# Altium schematic symbol library kmilo17pet-TI_BattMgmt.SchLib: 950 symbols (part 17 of 60)
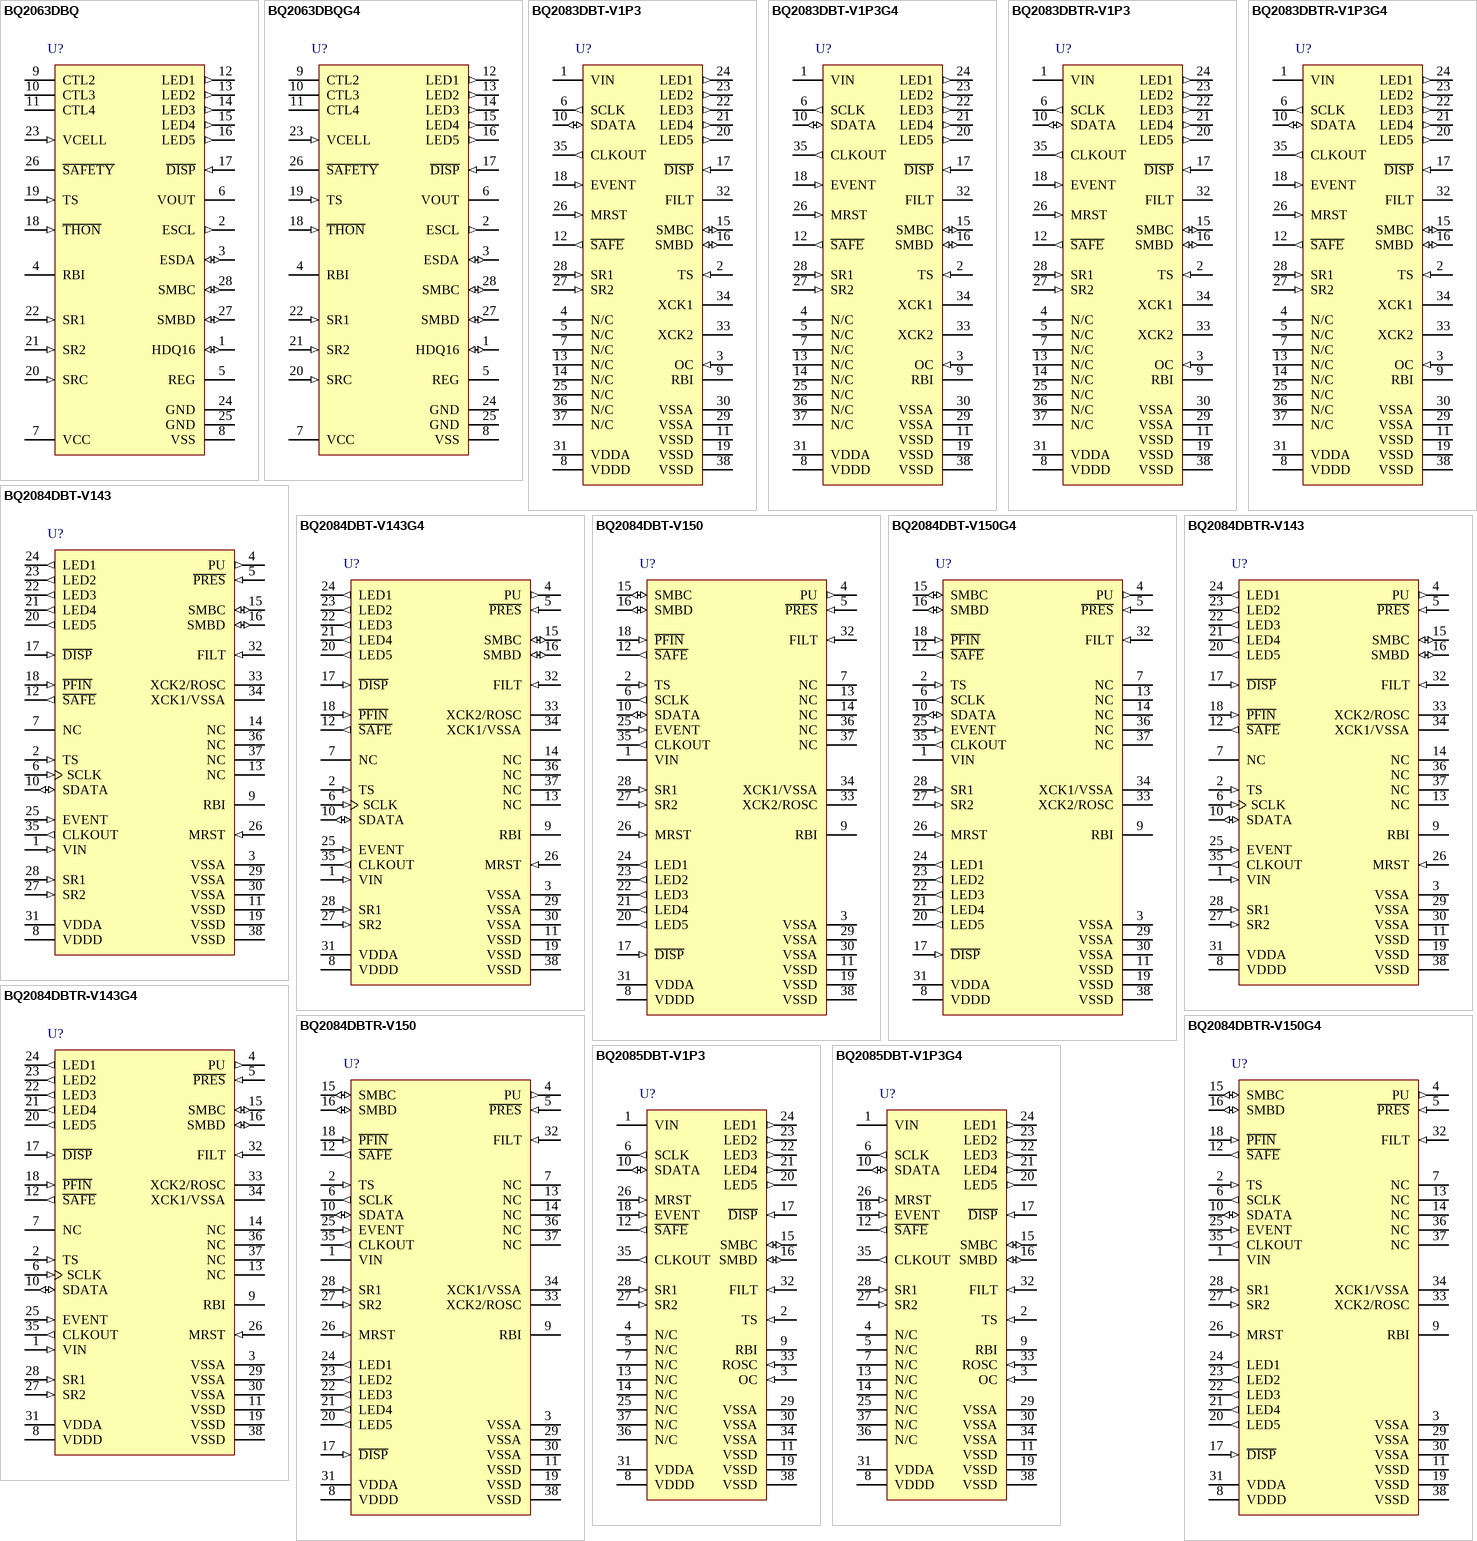
[diagram p50: symbols BQ2063DBQ to BQ2085DBT-V1P3G4]

## BQ2083DBT-V1P3
designator U?
SBS-Compliant Gas Gauge for Use with bq29311, -20 to 85 degC, 38-pin TSSOP (DBT), Green (RoHS & no Sb/Br); PartNumber: BQ2083DBT-V1P3; Manufacturer: Texas Instruments; Lead Acid: N; SubFamily: Battery Fuel Gauge; DatasheetVersion: SLVS508; PackageVersion: revI, Mar-2011; PackageReference: DBT38; PackageDescription: 38-Pin Plastic Small Outline 0.5 mm Pitch; Supplier 1: Digi-Key; Supplier Part Number 1: 296-17237-ND; Supplier Part Number 3: 595-BQ2083DBT-V1P3; Eco-Plan: Green (RoHS & no Sb/Br); Li-Ion: N; Li-Polymer: N; NiCd: N; NiMH: N; Over Voltage Protection: N; Mounting Technology: Surface Mount; Code_JEDEC: MO-153; ComponentLink1Description: Datasheet; ComponentLink1URL: http://www.ti.com/general/docs/lit/getliterature.tsp?genericPartNumber=BQ2083-V1P3&fileType=pdf
footprint DBT38_N (TSSOP, 38-Leads, Body 9.7x4.4mm, Pitch 0.5mm, IPC Medium Density)
footprint DBT38_L (TSSOP, 38-Leads, Body 9.7x4.4mm, Pitch 0.5mm, IPC High Density)
footprint DBT38_M (TSSOP, 38-Leads, Body 9.7x4.4mm, Pitch 0.5mm, IPC Low Density)
pins: 1 VIN (power) "Single cell voltage input from the bq29311", 2 TS (in) "Thermistor voltage input connection to monitor temperature", 3 OC (in) "Analog input for auto ADC offset compensation; should be connected to VSSA", 4 N/C "No connection", 5 N/C "No connection", 6 SCLK (out) "Communication clock to the bq29311", 7 N/C "No connection", 8 VDDD (power) "Positive supply for digital circuitry and I/O pins", 9 RBI (power) "Register backup that provides backup potential to the bq2083-V1P3 data registers during periods of low operating voltage. RBI accepts a storage capacitor or a battery input.", 10 SDATA (io) "Data transfer to and from bq29311", 11 VSSD (power) "Negative supply for digital circuitry", 12 ~{SAFE} (out) "Output for additional level of safety protection; e.g., fuse blow.", 13 N/C "No connection", 14 N/C "No connection", 15 SMBC (io) "SMBus clock open-drain bidirectional pin used to clock the data transfer to and from the bq2083-V1P3", 16 SMBD (io) "SMBus data open-drain bidirectional pin used to transfer address and data to and from the bq2083-V1P3", 17 ~{DISP} (in) "Display control for the LED drivers LED1 through LED5", 18 EVENT (in) "Input from bq29311 XALERT output", 19 VSSD (power) "Negative supply for digital circuitry", 20 LED5 (out) "LED display segments that each may drive an external LED", 21 LED4 (out) "LED display segments that each may drive an external LED", 22 LED3 (out) "LED display segments that each may drive an external LED", 23 LED2 (out) "LED display segments that each may drive an external LED", 24 LED1 (out) "LED display segments that each may drive an external LED", 25 N/C "No connection", 26 MRST (in) "Master reset input that forces the device into reset when held high", 27 SR2 (in) "Connections for a small-value sense resistor to monitor the battery charge- and discharge-current flow", 28 SR1 (in) "Connections for a small-value sense resistor to monitor the battery charge- and discharge-current flow", 29 VSSA (power) "Negative supply for analog circuitry", 30 VSSA (power) "Negative supply for analog circuitry", 31 VDDA (power) "Positive supply for analog circuitry", 32 FILT "Analog input connected to the external PLL filter", 33 XCK2 "32.768 kHz crystal oscillator output pin", 34 XCK1 "32.768 kHz crystal oscillator input pin", 35 CLKOUT (out) "32.768-kHz output to the bq29311", 36 N/C "No connection", 37 N/C "No connection", 38 VSSD (power) "Negative supply for digital circuitry"

## BQ2083DBT-V1P3G4
designator U?
SBS-Compliant Gas Gauge for Use with bq29311, -20 to 85 degC, 38-pin TSSOP (DBT), Green (RoHS & no Sb/Br); PartNumber: BQ2083DBT-V1P3G4; Manufacturer: Texas Instruments; Lead Acid: N; SubFamily: Battery Fuel Gauge; DatasheetVersion: SLVS508; PackageVersion: revI, Mar-2011; PackageReference: DBT38; PackageDescription: 38-Pin Plastic Small Outline 0.5 mm Pitch; Supplier 1: Digi-Key; Supplier Part Number 1: BQ2083DBT-V1P3G4-ND; Supplier Part Number 3: 595-BQ2083DBT-V1P3G4; Eco-Plan: Green (RoHS & no Sb/Br); Li-Ion: N; Li-Polymer: N; NiCd: N; NiMH: N; Over Voltage Protection: N; Mounting Technology: Surface Mount; Code_JEDEC: MO-153; ComponentLink1Description: Datasheet; ComponentLink1URL: http://www.ti.com/general/docs/lit/getliterature.tsp?genericPartNumber=BQ2083-V1P3&fileType=pdf
footprint DBT38_N (TSSOP, 38-Leads, Body 9.7x4.4mm, Pitch 0.5mm, IPC Medium Density)
footprint DBT38_L (TSSOP, 38-Leads, Body 9.7x4.4mm, Pitch 0.5mm, IPC High Density)
footprint DBT38_M (TSSOP, 38-Leads, Body 9.7x4.4mm, Pitch 0.5mm, IPC Low Density)
pins: 1 VIN (power) "Single cell voltage input from the bq29311", 2 TS (in) "Thermistor voltage input connection to monitor temperature", 3 OC (in) "Analog input for auto ADC offset compensation; should be connected to VSSA", 4 N/C "No connection", 5 N/C "No connection", 6 SCLK (out) "Communication clock to the bq29311", 7 N/C "No connection", 8 VDDD (power) "Positive supply for digital circuitry and I/O pins", 9 RBI (power) "Register backup that provides backup potential to the bq2083-V1P3 data registers during periods of low operating voltage. RBI accepts a storage capacitor or a battery input.", 10 SDATA (io) "Data transfer to and from bq29311", 11 VSSD (power) "Negative supply for digital circuitry", 12 ~{SAFE} (out) "Output for additional level of safety protection; e.g., fuse blow.", 13 N/C "No connection", 14 N/C "No connection", 15 SMBC (io) "SMBus clock open-drain bidirectional pin used to clock the data transfer to and from the bq2083-V1P3", 16 SMBD (io) "SMBus data open-drain bidirectional pin used to transfer address and data to and from the bq2083-V1P3", 17 ~{DISP} (in) "Display control for the LED drivers LED1 through LED5", 18 EVENT (in) "Input from bq29311 XALERT output", 19 VSSD (power) "Negative supply for digital circuitry", 20 LED5 (out) "LED display segments that each may drive an external LED", 21 LED4 (out) "LED display segments that each may drive an external LED", 22 LED3 (out) "LED display segments that each may drive an external LED", 23 LED2 (out) "LED display segments that each may drive an external LED", 24 LED1 (out) "LED display segments that each may drive an external LED", 25 N/C "No connection", 26 MRST (in) "Master reset input that forces the device into reset when held high", 27 SR2 (in) "Connections for a small-value sense resistor to monitor the battery charge- and discharge-current flow", 28 SR1 (in) "Connections for a small-value sense resistor to monitor the battery charge- and discharge-current flow", 29 VSSA (power) "Negative supply for analog circuitry", 30 VSSA (power) "Negative supply for analog circuitry", 31 VDDA (power) "Positive supply for analog circuitry", 32 FILT "Analog input connected to the external PLL filter", 33 XCK2 "32.768 kHz crystal oscillator output pin", 34 XCK1 "32.768 kHz crystal oscillator input pin", 35 CLKOUT (out) "32.768-kHz output to the bq29311", 36 N/C "No connection", 37 N/C "No connection", 38 VSSD (power) "Negative supply for digital circuitry"

## BQ2083DBTR-V1P3
designator U?
SBS-Compliant Gas Gauge for Use with bq29311, -20 to 85 degC, 38-pin TSSOP (DBT), Green (RoHS & no Sb/Br); PartNumber: BQ2083DBTR-V1P3; Manufacturer: Texas Instruments; Lead Acid: N; SubFamily: Battery Fuel Gauge; DatasheetVersion: SLVS508; PackageVersion: revI, Mar-2011; PackageReference: DBT38; PackageDescription: 38-Pin Plastic Small Outline 0.5 mm Pitch; Supplier 1: Digi-Key; Supplier Part Number 1: BQ2083DBTR-V1P3-ND; Supplier Part Number 3: 595-BQ2083DBTR-V1P3; Eco-Plan: Green (RoHS & no Sb/Br); Li-Ion: N; Li-Polymer: N; NiCd: N; NiMH: N; Over Voltage Protection: N; Mounting Technology: Surface Mount; Code_JEDEC: MO-153; ComponentLink1Description: Datasheet; ComponentLink1URL: http://www.ti.com/general/docs/lit/getliterature.tsp?genericPartNumber=BQ2083-V1P3&fileType=pdf
footprint DBT38_N (TSSOP, 38-Leads, Body 9.7x4.4mm, Pitch 0.5mm, IPC Medium Density)
footprint DBT38_L (TSSOP, 38-Leads, Body 9.7x4.4mm, Pitch 0.5mm, IPC High Density)
footprint DBT38_M (TSSOP, 38-Leads, Body 9.7x4.4mm, Pitch 0.5mm, IPC Low Density)
pins: 1 VIN (power) "Single cell voltage input from the bq29311", 2 TS (in) "Thermistor voltage input connection to monitor temperature", 3 OC (in) "Analog input for auto ADC offset compensation; should be connected to VSSA", 4 N/C "No connection", 5 N/C "No connection", 6 SCLK (out) "Communication clock to the bq29311", 7 N/C "No connection", 8 VDDD (power) "Positive supply for digital circuitry and I/O pins", 9 RBI (power) "Register backup that provides backup potential to the bq2083-V1P3 data registers during periods of low operating voltage. RBI accepts a storage capacitor or a battery input.", 10 SDATA (io) "Data transfer to and from bq29311", 11 VSSD (power) "Negative supply for digital circuitry", 12 ~{SAFE} (out) "Output for additional level of safety protection; e.g., fuse blow.", 13 N/C "No connection", 14 N/C "No connection", 15 SMBC (io) "SMBus clock open-drain bidirectional pin used to clock the data transfer to and from the bq2083-V1P3", 16 SMBD (io) "SMBus data open-drain bidirectional pin used to transfer address and data to and from the bq2083-V1P3", 17 ~{DISP} (in) "Display control for the LED drivers LED1 through LED5", 18 EVENT (in) "Input from bq29311 XALERT output", 19 VSSD (power) "Negative supply for digital circuitry", 20 LED5 (out) "LED display segments that each may drive an external LED", 21 LED4 (out) "LED display segments that each may drive an external LED", 22 LED3 (out) "LED display segments that each may drive an external LED", 23 LED2 (out) "LED display segments that each may drive an external LED", 24 LED1 (out) "LED display segments that each may drive an external LED", 25 N/C "No connection", 26 MRST (in) "Master reset input that forces the device into reset when held high", 27 SR2 (in) "Connections for a small-value sense resistor to monitor the battery charge- and discharge-current flow", 28 SR1 (in) "Connections for a small-value sense resistor to monitor the battery charge- and discharge-current flow", 29 VSSA (power) "Negative supply for analog circuitry", 30 VSSA (power) "Negative supply for analog circuitry", 31 VDDA (power) "Positive supply for analog circuitry", 32 FILT "Analog input connected to the external PLL filter", 33 XCK2 "32.768 kHz crystal oscillator output pin", 34 XCK1 "32.768 kHz crystal oscillator input pin", 35 CLKOUT (out) "32.768-kHz output to the bq29311", 36 N/C "No connection", 37 N/C "No connection", 38 VSSD (power) "Negative supply for digital circuitry"

## BQ2083DBTR-V1P3G4
designator U?
SBS-Compliant Gas Gauge for Use with bq29311, -20 to 85 degC, 38-pin TSSOP (DBT), Green (RoHS & no Sb/Br); PartNumber: BQ2083DBTR-V1P3G4; Manufacturer: Texas Instruments; Lead Acid: N; SubFamily: Battery Fuel Gauge; DatasheetVersion: SLVS508; PackageVersion: revI, Mar-2011; PackageReference: DBT38; PackageDescription: 38-Pin Plastic Small Outline 0.5 mm Pitch; Supplier 1: Digi-Key; Supplier Part Number 1: BQ2083DBTR-V1P3G4-ND; Supplier Part Number 3: 595-BQ2083DBTRV1P3G4; Eco-Plan: Green (RoHS & no Sb/Br); Li-Ion: N; Li-Polymer: N; NiCd: N; NiMH: N; Over Voltage Protection: N; Mounting Technology: Surface Mount; Code_JEDEC: MO-153; ComponentLink1Description: Datasheet; ComponentLink1URL: http://www.ti.com/general/docs/lit/getliterature.tsp?genericPartNumber=BQ2083-V1P3&fileType=pdf
footprint DBT38_N (TSSOP, 38-Leads, Body 9.7x4.4mm, Pitch 0.5mm, IPC Medium Density)
footprint DBT38_L (TSSOP, 38-Leads, Body 9.7x4.4mm, Pitch 0.5mm, IPC High Density)
footprint DBT38_M (TSSOP, 38-Leads, Body 9.7x4.4mm, Pitch 0.5mm, IPC Low Density)
pins: 1 VIN (power) "Single cell voltage input from the bq29311", 2 TS (in) "Thermistor voltage input connection to monitor temperature", 3 OC (in) "Analog input for auto ADC offset compensation; should be connected to VSSA", 4 N/C "No connection", 5 N/C "No connection", 6 SCLK (out) "Communication clock to the bq29311", 7 N/C "No connection", 8 VDDD (power) "Positive supply for digital circuitry and I/O pins", 9 RBI (power) "Register backup that provides backup potential to the bq2083-V1P3 data registers during periods of low operating voltage. RBI accepts a storage capacitor or a battery input.", 10 SDATA (io) "Data transfer to and from bq29311", 11 VSSD (power) "Negative supply for digital circuitry", 12 ~{SAFE} (out) "Output for additional level of safety protection; e.g., fuse blow.", 13 N/C "No connection", 14 N/C "No connection", 15 SMBC (io) "SMBus clock open-drain bidirectional pin used to clock the data transfer to and from the bq2083-V1P3", 16 SMBD (io) "SMBus data open-drain bidirectional pin used to transfer address and data to and from the bq2083-V1P3", 17 ~{DISP} (in) "Display control for the LED drivers LED1 through LED5", 18 EVENT (in) "Input from bq29311 XALERT output", 19 VSSD (power) "Negative supply for digital circuitry", 20 LED5 (out) "LED display segments that each may drive an external LED", 21 LED4 (out) "LED display segments that each may drive an external LED", 22 LED3 (out) "LED display segments that each may drive an external LED", 23 LED2 (out) "LED display segments that each may drive an external LED", 24 LED1 (out) "LED display segments that each may drive an external LED", 25 N/C "No connection", 26 MRST (in) "Master reset input that forces the device into reset when held high", 27 SR2 (in) "Connections for a small-value sense resistor to monitor the battery charge- and discharge-current flow", 28 SR1 (in) "Connections for a small-value sense resistor to monitor the battery charge- and discharge-current flow", 29 VSSA (power) "Negative supply for analog circuitry", 30 VSSA (power) "Negative supply for analog circuitry", 31 VDDA (power) "Positive supply for analog circuitry", 32 FILT "Analog input connected to the external PLL filter", 33 XCK2 "32.768 kHz crystal oscillator output pin", 34 XCK1 "32.768 kHz crystal oscillator input pin", 35 CLKOUT (out) "32.768-kHz output to the bq29311", 36 N/C "No connection", 37 N/C "No connection", 38 VSSD (power) "Negative supply for digital circuitry"

## BQ2084DBT-V143
designator U?
SBS v1.1 Compliant Gas Gauge for use with the BQ29312A, 38-pin TSSOP (DBT), Green (RoHS & no Sb/Br); PartNumber: BQ2084DBT-V143; Manufacturer: Texas Instruments; Lead Acid: N; Li-Ion: Y; SubFamily: Battery Fuel Gauge; DatasheetVersion: SLUS732; PackageVersion: revI, Mar-2011; PackageReference: DBT38; PackageDescription: 38-Pin Plastic Small Outline 0.5 mm Pitch; Supplier 1: Digi-Key; Supplier Part Number 1: 296-32833-5-ND; Supplier Part Number 3: 21M9446; Eco-Plan: Green (RoHS & no Sb/Br); Li-Polymer: N; NiCd: N; NiMH: N; Over Voltage Protection: N; Mounting Technology: Surface Mount; Code_JEDEC: MO-153; ComponentLink1Description: Datasheet; ComponentLink1URL: http://www.ti.com/general/docs/lit/getliterature.tsp?genericPartNumber=BQ2084-V143&fileType=pdf
footprint DBT38_N (TSSOP, 38-Leads, Body 9.7x4.4mm, Pitch 0.5mm, IPC Medium Density)
footprint DBT38_L (TSSOP, 38-Leads, Body 9.7x4.4mm, Pitch 0.5mm, IPC High Density)
footprint DBT38_M (TSSOP, 38-Leads, Body 9.7x4.4mm, Pitch 0.5mm, IPC Low Density)
pins: 1 VIN (in) "Single-cell voltage input from the bq29312.", 2 TS (in) "Thermistor voltage input connection to monitor temperature.", 3 VSSA (power) "Negative supply for analog circuitry.", 4 PU (out) "Output to pull up the P\R\E\S\ pin for detection.", 5 ~{PRES} (in) "Active low input to sense system insertion.", 6 SCLK (in) "Communication clock to the bq29312.", 7 NC "No connection.", 8 VDDD (power) "Positive supply for digital circuitry and I/O pins.", 9 RBI (power) "Register backup that provides backup potential to the bq2084-V143 data registers during periods of low operating voltage. RBI accepts a storage capacitor or a battery input.", 10 SDATA (io) "Data transfer to and from bq29312.", 11 VSSD (power) "Negative supply for digital circuitry.", 12 ~{SAFE} (out) "Active low output for additional level of safety protection; e.g., fuse blow.", 13 NC "No connection.", 14 NC "No connection.", 15 SMBC (io) "SMBus clock open-drain bidirectional pin used to clock the data transfer to and from the bq2084-V143.", 16 SMBD (io) "SMBus data open-drain bidirectional pin used to transfer address and data to and from the bq2084-V143.", 17 ~{DISP} (in) "Display control for the LED drivers LED1 through LED5.", 18 ~{PFIN} (in) "Active low input to detect secondary protector output status.", 19 VSSD (power) "Negative supply for digital circuitry.", 20 LED5 (out) "LED display segments that each may drive an external LED.", 21 LED4 (out) "LED display segments that each may drive an external LED.", 22 LED3 (out) "LED display segments that each may drive an external LED.", 23 LED2 (out) "LED display segments that each may drive an external LED.", 24 LED1 (out) "LED display segments that each may drive an external LED.", 25 EVENT (in) "Input from bq29312 XALERT output.", 26 MRST (in) "Master reset input that forces the device into reset when held high.", 27 SR2 (in) "Connections for a small-value sense resistor to monitor the battery charge- and discharge-current flow.", 28 SR1 (in) "Connections for a small-value sense resistor to monitor the battery charge- and discharge-current flow.", 29 VSSA (power) "Negative supply for analog circuitry.", 30 VSSA (power) "Negative supply for analog circuitry.", 31 VDDA (power) "Positive supply for analog circuitry.", 32 FILT (in) "Analog input connected to the external PLL filter.", 33 XCK2/ROSC "32.768-kHz crystal oscillator output pin or connected to a 100-k ohm, 50 ppm or better resistor if the internal oscillator is used.", 34 XCK1/VSSA "32.768-kHz crystal oscillator input pin or connected to VSSA if the internal oscillator is used.", 35 CLKOUT (out) "32.768-kHz output to the bq29312.", 36 NC "No connection.", 37 NC "No connection.", 38 VSSD (power) "Negative supply for digital circuitry."

## BQ2084DBT-V143G4
designator U?
SBS v1.1 Compliant Gas Gauge for use with the BQ29312A, 38-pin TSSOP (DBT), Green (RoHS & no Sb/Br); PartNumber: BQ2084DBT-V143G4; Manufacturer: Texas Instruments; Lead Acid: N; Li-Ion: Y; SubFamily: Battery Fuel Gauge; DatasheetVersion: SLUS732; PackageVersion: revI, Mar-2011; PackageReference: DBT38; PackageDescription: 38-Pin Plastic Small Outline 0.5 mm Pitch; Supplier 1: Digi-Key; Supplier Part Number 1: BQ2084DBT-V143G4-ND; Supplier Part Number 3: 595-BQ2084DBT-V143G4; Eco-Plan: Green (RoHS & no Sb/Br); Li-Polymer: N; NiCd: N; NiMH: N; Over Voltage Protection: N; Mounting Technology: Surface Mount; Code_JEDEC: MO-153; ComponentLink1Description: Datasheet; ComponentLink1URL: http://www.ti.com/general/docs/lit/getliterature.tsp?genericPartNumber=BQ2084-V143&fileType=pdf
footprint DBT38_N (TSSOP, 38-Leads, Body 9.7x4.4mm, Pitch 0.5mm, IPC Medium Density)
footprint DBT38_L (TSSOP, 38-Leads, Body 9.7x4.4mm, Pitch 0.5mm, IPC High Density)
footprint DBT38_M (TSSOP, 38-Leads, Body 9.7x4.4mm, Pitch 0.5mm, IPC Low Density)
pins: 1 VIN (in) "Single-cell voltage input from the bq29312.", 2 TS (in) "Thermistor voltage input connection to monitor temperature.", 3 VSSA (power) "Negative supply for analog circuitry.", 4 PU (out) "Output to pull up the P\R\E\S\ pin for detection.", 5 ~{PRES} (in) "Active low input to sense system insertion.", 6 SCLK (in) "Communication clock to the bq29312.", 7 NC "No connection.", 8 VDDD (power) "Positive supply for digital circuitry and I/O pins.", 9 RBI (power) "Register backup that provides backup potential to the bq2084-V143 data registers during periods of low operating voltage. RBI accepts a storage capacitor or a battery input.", 10 SDATA (io) "Data transfer to and from bq29312.", 11 VSSD (power) "Negative supply for digital circuitry.", 12 ~{SAFE} (out) "Active low output for additional level of safety protection; e.g., fuse blow.", 13 NC "No connection.", 14 NC "No connection.", 15 SMBC (io) "SMBus clock open-drain bidirectional pin used to clock the data transfer to and from the bq2084-V143.", 16 SMBD (io) "SMBus data open-drain bidirectional pin used to transfer address and data to and from the bq2084-V143.", 17 ~{DISP} (in) "Display control for the LED drivers LED1 through LED5.", 18 ~{PFIN} (in) "Active low input to detect secondary protector output status.", 19 VSSD (power) "Negative supply for digital circuitry.", 20 LED5 (out) "LED display segments that each may drive an external LED.", 21 LED4 (out) "LED display segments that each may drive an external LED.", 22 LED3 (out) "LED display segments that each may drive an external LED.", 23 LED2 (out) "LED display segments that each may drive an external LED.", 24 LED1 (out) "LED display segments that each may drive an external LED.", 25 EVENT (in) "Input from bq29312 XALERT output.", 26 MRST (in) "Master reset input that forces the device into reset when held high.", 27 SR2 (in) "Connections for a small-value sense resistor to monitor the battery charge- and discharge-current flow.", 28 SR1 (in) "Connections for a small-value sense resistor to monitor the battery charge- and discharge-current flow.", 29 VSSA (power) "Negative supply for analog circuitry.", 30 VSSA (power) "Negative supply for analog circuitry.", 31 VDDA (power) "Positive supply for analog circuitry.", 32 FILT (in) "Analog input connected to the external PLL filter.", 33 XCK2/ROSC "32.768-kHz crystal oscillator output pin or connected to a 100-k ohm, 50 ppm or better resistor if the internal oscillator is used.", 34 XCK1/VSSA "32.768-kHz crystal oscillator input pin or connected to VSSA if the internal oscillator is used.", 35 CLKOUT (out) "32.768-kHz output to the bq29312.", 36 NC "No connection.", 37 NC "No connection.", 38 VSSD (power) "Negative supply for digital circuitry."

## BQ2084DBT-V150
designator U?
SBS v1.1 Compliant Gas Gauge with LED Delay, -20 to 85 degC, 38-pin TSSOP (DBT), Green (RoHS & no Sb/Br); PartNumber: BQ2084DBT-V150; Manufacturer: Texas Instruments; Lead Acid: N; Li-Ion: Y; SubFamily: Battery Fuel Gauge; DatasheetVersion: SLUS758; PackageVersion: revI, Mar-2011; PackageReference: DBT38; PackageDescription: 38-Pin Plastic Small Outline 0.5 mm Pitch; Supplier 1: Digi-Key; Supplier Part Number 1: 296-22085-5-ND; Supplier Part Number 3: 50M8820; Eco-Plan: Green (RoHS & no Sb/Br); Li-Polymer: Y; NiCd: N; NiMH: N; Over Voltage Protection: N; Mounting Technology: Surface Mount; Code_JEDEC: MO-153; ComponentLink1Description: Datasheet; ComponentLink1URL: http://www.ti.com/general/docs/lit/getliterature.tsp?genericPartNumber=BQ2084-V150&fileType=pdf
footprint DBT38_N (TSSOP, 38-Leads, Body 9.7x4.4mm, Pitch 0.5mm, IPC Medium Density)
footprint DBT38_L (TSSOP, 38-Leads, Body 9.7x4.4mm, Pitch 0.5mm, IPC High Density)
footprint DBT38_M (TSSOP, 38-Leads, Body 9.7x4.4mm, Pitch 0.5mm, IPC Low Density)
pins: 1 VIN (power) "Single-cell voltage input from the bq29312A", 2 TS (in) "Thermistor voltage input connection to monitor temperature", 3 VSSA (power) "Negative supply for analog circuitry", 4 PU (out) "Output to pull up the PRES pin for detection", 5 ~{PRES} (in) "Active low input to sense system insertion", 6 SCLK (out) "Communication clock to the bq29312A", 7 NC "No connection", 8 VDDD (power) "Positive supply for digital circuitry and I/O pins", 9 RBI (power) "Register backup that provides backup potential to the bq2084-V150 data registers during periods of low operating voltage. RBI accepts a storage capacitor or a battery input.", 10 SDATA (io) "Data transfer to and from bq29312A", 11 VSSD (power) "Negative supply for digital circuitry", 12 ~{SAFE} (out) "Active low output for additional level of safety protection; e.g., fuse blow.", 13 NC "No connection", 14 NC "No connection", 15 SMBC (io) "SMBus clock open-drain bidirectional pin used to clock the data transfer to and from the bq2084-V150", 16 SMBD (io) "SMBus clock open-drain bidirectional pin used to transfer address and data to and from the bq2084-V150", 17 ~{DISP} (in) "Display control for the LED drivers LED1 through LED5", 18 ~{PFIN} (in) "Active low input to detect secondary protector output status", 19 VSSD (power) "Negative supply for digital circuitry", 20 LED5 (out) "LED display segments that each may drive an external LED", 21 LED4 (out) "LED display segments that each may drive an external LED", 22 LED3 (out) "LED display segments that each may drive an external LED", 23 LED2 (out) "LED display segments that each may drive an external LED", 24 LED1 (out) "LED display segments that each may drive an external LED", 25 EVENT (in) "Input from bq29312A XALERT output", 26 MRST (in) "Master reset input that forces the device into reset when held high", 27 SR2 (in) "Connections for a small-value sense resistor to monitor the battery charge- and discharge-current flow", 28 SR1 (in) "Connections for a small-value sense resistor to monitor the battery charge- and discharge-current flow", 29 VSSA (power) "Negative supply for analog circuitry", 30 VSSA (power) "Negative supply for analog circuitry", 31 VDDA (power) "Positive supply for analog circuitry", 32 FILT (in) "Analog input connected to the external PLL filter", 33 XCK2/ROSC "32.768-kHz crystal oscillator input pin or connected to a 100-kohm, 50 ppm or better resistor if the internal oscillator is used", 34 XCK1/VSSA "32.768-kHz crystal oscillator input pin or connected to VSSA if the internal oscillator is used", 35 CLKOUT (out) "32.768-kHz output to the bq29312A", 36 NC "No connection", 37 NC "No connection", 38 VSSD (power) "Negative supply for digital circuitry"

## BQ2084DBT-V150G4
designator U?
SBS v1.1 Compliant Gas Gauge with LED Delay, -20 to 85 degC, 38-pin TSSOP (DBT), Green (RoHS & no Sb/Br); PartNumber: BQ2084DBT-V150G4; Manufacturer: Texas Instruments; Lead Acid: N; Li-Ion: Y; SubFamily: Battery Fuel Gauge; DatasheetVersion: SLUS758; PackageVersion: revI, Mar-2011; PackageReference: DBT38; PackageDescription: 38-Pin Plastic Small Outline 0.5 mm Pitch; Supplier 1: Digi-Key; Supplier Part Number 1: BQ2084DBT-V150G4-ND; Supplier Part Number 3: 595-BQ2084DBT-V150G4; Eco-Plan: Green (RoHS & no Sb/Br); Li-Polymer: Y; NiCd: N; NiMH: N; Over Voltage Protection: N; Mounting Technology: Surface Mount; Code_JEDEC: MO-153; ComponentLink1Description: Datasheet; ComponentLink1URL: http://www.ti.com/general/docs/lit/getliterature.tsp?genericPartNumber=BQ2084-V150&fileType=pdf
footprint DBT38_N (TSSOP, 38-Leads, Body 9.7x4.4mm, Pitch 0.5mm, IPC Medium Density)
footprint DBT38_L (TSSOP, 38-Leads, Body 9.7x4.4mm, Pitch 0.5mm, IPC High Density)
footprint DBT38_M (TSSOP, 38-Leads, Body 9.7x4.4mm, Pitch 0.5mm, IPC Low Density)
pins: 1 VIN (power) "Single-cell voltage input from the bq29312A", 2 TS (in) "Thermistor voltage input connection to monitor temperature", 3 VSSA (power) "Negative supply for analog circuitry", 4 PU (out) "Output to pull up the PRES pin for detection", 5 ~{PRES} (in) "Active low input to sense system insertion", 6 SCLK (out) "Communication clock to the bq29312A", 7 NC "No connection", 8 VDDD (power) "Positive supply for digital circuitry and I/O pins", 9 RBI (power) "Register backup that provides backup potential to the bq2084-V150 data registers during periods of low operating voltage. RBI accepts a storage capacitor or a battery input.", 10 SDATA (io) "Data transfer to and from bq29312A", 11 VSSD (power) "Negative supply for digital circuitry", 12 ~{SAFE} (out) "Active low output for additional level of safety protection; e.g., fuse blow.", 13 NC "No connection", 14 NC "No connection", 15 SMBC (io) "SMBus clock open-drain bidirectional pin used to clock the data transfer to and from the bq2084-V150", 16 SMBD (io) "SMBus clock open-drain bidirectional pin used to transfer address and data to and from the bq2084-V150", 17 ~{DISP} (in) "Display control for the LED drivers LED1 through LED5", 18 ~{PFIN} (in) "Active low input to detect secondary protector output status", 19 VSSD (power) "Negative supply for digital circuitry", 20 LED5 (out) "LED display segments that each may drive an external LED", 21 LED4 (out) "LED display segments that each may drive an external LED", 22 LED3 (out) "LED display segments that each may drive an external LED", 23 LED2 (out) "LED display segments that each may drive an external LED", 24 LED1 (out) "LED display segments that each may drive an external LED", 25 EVENT (in) "Input from bq29312A XALERT output", 26 MRST (in) "Master reset input that forces the device into reset when held high", 27 SR2 (in) "Connections for a small-value sense resistor to monitor the battery charge- and discharge-current flow", 28 SR1 (in) "Connections for a small-value sense resistor to monitor the battery charge- and discharge-current flow", 29 VSSA (power) "Negative supply for analog circuitry", 30 VSSA (power) "Negative supply for analog circuitry", 31 VDDA (power) "Positive supply for analog circuitry", 32 FILT (in) "Analog input connected to the external PLL filter", 33 XCK2/ROSC "32.768-kHz crystal oscillator input pin or connected to a 100-kohm, 50 ppm or better resistor if the internal oscillator is used", 34 XCK1/VSSA "32.768-kHz crystal oscillator input pin or connected to VSSA if the internal oscillator is used", 35 CLKOUT (out) "32.768-kHz output to the bq29312A", 36 NC "No connection", 37 NC "No connection", 38 VSSD (power) "Negative supply for digital circuitry"

## BQ2084DBTR-V143
designator U?
SBS v1.1 Compliant Gas Gauge for use with the BQ29312A, 38-pin TSSOP (DBT), Green (RoHS & no Sb/Br); PartNumber: BQ2084DBTR-V143; Manufacturer: Texas Instruments; Lead Acid: N; Li-Ion: Y; SubFamily: Battery Fuel Gauge; DatasheetVersion: SLUS732; PackageVersion: revI, Mar-2011; PackageReference: DBT38; PackageDescription: 38-Pin Plastic Small Outline 0.5 mm Pitch; Supplier 1: Digi-Key; Supplier Part Number 1: 296-21297-2-ND; Supplier Part Number 3: 296-21297-6-ND; Eco-Plan: Green (RoHS & no Sb/Br); Li-Polymer: N; NiCd: N; NiMH: N; Over Voltage Protection: N; Mounting Technology: Surface Mount; Code_JEDEC: MO-153; ComponentLink1Description: Datasheet; ComponentLink1URL: http://www.ti.com/general/docs/lit/getliterature.tsp?genericPartNumber=BQ2084-V143&fileType=pdf
footprint DBT38_N (TSSOP, 38-Leads, Body 9.7x4.4mm, Pitch 0.5mm, IPC Medium Density)
footprint DBT38_L (TSSOP, 38-Leads, Body 9.7x4.4mm, Pitch 0.5mm, IPC High Density)
footprint DBT38_M (TSSOP, 38-Leads, Body 9.7x4.4mm, Pitch 0.5mm, IPC Low Density)
pins: 1 VIN (in) "Single-cell voltage input from the bq29312.", 2 TS (in) "Thermistor voltage input connection to monitor temperature.", 3 VSSA (power) "Negative supply for analog circuitry.", 4 PU (out) "Output to pull up the P\R\E\S\ pin for detection.", 5 ~{PRES} (in) "Active low input to sense system insertion.", 6 SCLK (in) "Communication clock to the bq29312.", 7 NC "No connection.", 8 VDDD (power) "Positive supply for digital circuitry and I/O pins.", 9 RBI (power) "Register backup that provides backup potential to the bq2084-V143 data registers during periods of low operating voltage. RBI accepts a storage capacitor or a battery input.", 10 SDATA (io) "Data transfer to and from bq29312.", 11 VSSD (power) "Negative supply for digital circuitry.", 12 ~{SAFE} (out) "Active low output for additional level of safety protection; e.g., fuse blow.", 13 NC "No connection.", 14 NC "No connection.", 15 SMBC (io) "SMBus clock open-drain bidirectional pin used to clock the data transfer to and from the bq2084-V143.", 16 SMBD (io) "SMBus data open-drain bidirectional pin used to transfer address and data to and from the bq2084-V143.", 17 ~{DISP} (in) "Display control for the LED drivers LED1 through LED5.", 18 ~{PFIN} (in) "Active low input to detect secondary protector output status.", 19 VSSD (power) "Negative supply for digital circuitry.", 20 LED5 (out) "LED display segments that each may drive an external LED.", 21 LED4 (out) "LED display segments that each may drive an external LED.", 22 LED3 (out) "LED display segments that each may drive an external LED.", 23 LED2 (out) "LED display segments that each may drive an external LED.", 24 LED1 (out) "LED display segments that each may drive an external LED.", 25 EVENT (in) "Input from bq29312 XALERT output.", 26 MRST (in) "Master reset input that forces the device into reset when held high.", 27 SR2 (in) "Connections for a small-value sense resistor to monitor the battery charge- and discharge-current flow.", 28 SR1 (in) "Connections for a small-value sense resistor to monitor the battery charge- and discharge-current flow.", 29 VSSA (power) "Negative supply for analog circuitry.", 30 VSSA (power) "Negative supply for analog circuitry.", 31 VDDA (power) "Positive supply for analog circuitry.", 32 FILT (in) "Analog input connected to the external PLL filter.", 33 XCK2/ROSC "32.768-kHz crystal oscillator output pin or connected to a 100-k ohm, 50 ppm or better resistor if the internal oscillator is used.", 34 XCK1/VSSA "32.768-kHz crystal oscillator input pin or connected to VSSA if the internal oscillator is used.", 35 CLKOUT (out) "32.768-kHz output to the bq29312.", 36 NC "No connection.", 37 NC "No connection.", 38 VSSD (power) "Negative supply for digital circuitry."

## BQ2084DBTR-V143G4
designator U?
SBS v1.1 Compliant Gas Gauge for use with the BQ29312A, 38-pin TSSOP (DBT), Green (RoHS & no Sb/Br); PartNumber: BQ2084DBTR-V143G4; Manufacturer: Texas Instruments; Lead Acid: N; Li-Ion: Y; SubFamily: Battery Fuel Gauge; DatasheetVersion: SLUS732; PackageVersion: revI, Mar-2011; PackageReference: DBT38; PackageDescription: 38-Pin Plastic Small Outline 0.5 mm Pitch; Supplier 1: Digi-Key; Supplier Part Number 1: BQ2084DBTR-V143G4-ND; Supplier Part Number 3: 595-BQ2084DBTRV143G4; Eco-Plan: Green (RoHS & no Sb/Br); Li-Polymer: N; NiCd: N; NiMH: N; Over Voltage Protection: N; Mounting Technology: Surface Mount; Code_JEDEC: MO-153; ComponentLink1Description: Datasheet; ComponentLink1URL: http://www.ti.com/general/docs/lit/getliterature.tsp?genericPartNumber=BQ2084-V143&fileType=pdf
footprint DBT38_N (TSSOP, 38-Leads, Body 9.7x4.4mm, Pitch 0.5mm, IPC Medium Density)
footprint DBT38_L (TSSOP, 38-Leads, Body 9.7x4.4mm, Pitch 0.5mm, IPC High Density)
footprint DBT38_M (TSSOP, 38-Leads, Body 9.7x4.4mm, Pitch 0.5mm, IPC Low Density)
pins: 1 VIN (in) "Single-cell voltage input from the bq29312.", 2 TS (in) "Thermistor voltage input connection to monitor temperature.", 3 VSSA (power) "Negative supply for analog circuitry.", 4 PU (out) "Output to pull up the P\R\E\S\ pin for detection.", 5 ~{PRES} (in) "Active low input to sense system insertion.", 6 SCLK (in) "Communication clock to the bq29312.", 7 NC "No connection.", 8 VDDD (power) "Positive supply for digital circuitry and I/O pins.", 9 RBI (power) "Register backup that provides backup potential to the bq2084-V143 data registers during periods of low operating voltage. RBI accepts a storage capacitor or a battery input.", 10 SDATA (io) "Data transfer to and from bq29312.", 11 VSSD (power) "Negative supply for digital circuitry.", 12 ~{SAFE} (out) "Active low output for additional level of safety protection; e.g., fuse blow.", 13 NC "No connection.", 14 NC "No connection.", 15 SMBC (io) "SMBus clock open-drain bidirectional pin used to clock the data transfer to and from the bq2084-V143.", 16 SMBD (io) "SMBus data open-drain bidirectional pin used to transfer address and data to and from the bq2084-V143.", 17 ~{DISP} (in) "Display control for the LED drivers LED1 through LED5.", 18 ~{PFIN} (in) "Active low input to detect secondary protector output status.", 19 VSSD (power) "Negative supply for digital circuitry.", 20 LED5 (out) "LED display segments that each may drive an external LED.", 21 LED4 (out) "LED display segments that each may drive an external LED.", 22 LED3 (out) "LED display segments that each may drive an external LED.", 23 LED2 (out) "LED display segments that each may drive an external LED.", 24 LED1 (out) "LED display segments that each may drive an external LED.", 25 EVENT (in) "Input from bq29312 XALERT output.", 26 MRST (in) "Master reset input that forces the device into reset when held high.", 27 SR2 (in) "Connections for a small-value sense resistor to monitor the battery charge- and discharge-current flow.", 28 SR1 (in) "Connections for a small-value sense resistor to monitor the battery charge- and discharge-current flow.", 29 VSSA (power) "Negative supply for analog circuitry.", 30 VSSA (power) "Negative supply for analog circuitry.", 31 VDDA (power) "Positive supply for analog circuitry.", 32 FILT (in) "Analog input connected to the external PLL filter.", 33 XCK2/ROSC "32.768-kHz crystal oscillator output pin or connected to a 100-k ohm, 50 ppm or better resistor if the internal oscillator is used.", 34 XCK1/VSSA "32.768-kHz crystal oscillator input pin or connected to VSSA if the internal oscillator is used.", 35 CLKOUT (out) "32.768-kHz output to the bq29312.", 36 NC "No connection.", 37 NC "No connection.", 38 VSSD (power) "Negative supply for digital circuitry."

## BQ2084DBTR-V150
designator U?
SBS v1.1 Compliant Gas Gauge with LED Delay, -20 to 85 degC, 38-pin TSSOP (DBT), Green (RoHS & no Sb/Br); PartNumber: BQ2084DBTR-V150; Manufacturer: Texas Instruments; Lead Acid: N; Li-Ion: Y; SubFamily: Battery Fuel Gauge; DatasheetVersion: SLUS758; PackageVersion: revI, Mar-2011; PackageReference: DBT38; PackageDescription: 38-Pin Plastic Small Outline 0.5 mm Pitch; Supplier 1: Digi-Key; Supplier Part Number 1: BQ2084DBTR-V150-ND; Supplier Part Number 3: 595-BQ2084DBTR-V150; Eco-Plan: Green (RoHS & no Sb/Br); Li-Polymer: Y; NiCd: N; NiMH: N; Over Voltage Protection: N; Mounting Technology: Surface Mount; Code_JEDEC: MO-153; ComponentLink1Description: Datasheet; ComponentLink1URL: http://www.ti.com/general/docs/lit/getliterature.tsp?genericPartNumber=BQ2084-V150&fileType=pdf
footprint DBT38_N (TSSOP, 38-Leads, Body 9.7x4.4mm, Pitch 0.5mm, IPC Medium Density)
footprint DBT38_L (TSSOP, 38-Leads, Body 9.7x4.4mm, Pitch 0.5mm, IPC High Density)
footprint DBT38_M (TSSOP, 38-Leads, Body 9.7x4.4mm, Pitch 0.5mm, IPC Low Density)
pins: 1 VIN (power) "Single-cell voltage input from the bq29312A", 2 TS (in) "Thermistor voltage input connection to monitor temperature", 3 VSSA (power) "Negative supply for analog circuitry", 4 PU (out) "Output to pull up the PRES pin for detection", 5 ~{PRES} (in) "Active low input to sense system insertion", 6 SCLK (out) "Communication clock to the bq29312A", 7 NC "No connection", 8 VDDD (power) "Positive supply for digital circuitry and I/O pins", 9 RBI (power) "Register backup that provides backup potential to the bq2084-V150 data registers during periods of low operating voltage. RBI accepts a storage capacitor or a battery input.", 10 SDATA (io) "Data transfer to and from bq29312A", 11 VSSD (power) "Negative supply for digital circuitry", 12 ~{SAFE} (out) "Active low output for additional level of safety protection; e.g., fuse blow.", 13 NC "No connection", 14 NC "No connection", 15 SMBC (io) "SMBus clock open-drain bidirectional pin used to clock the data transfer to and from the bq2084-V150", 16 SMBD (io) "SMBus clock open-drain bidirectional pin used to transfer address and data to and from the bq2084-V150", 17 ~{DISP} (in) "Display control for the LED drivers LED1 through LED5", 18 ~{PFIN} (in) "Active low input to detect secondary protector output status", 19 VSSD (power) "Negative supply for digital circuitry", 20 LED5 (out) "LED display segments that each may drive an external LED", 21 LED4 (out) "LED display segments that each may drive an external LED", 22 LED3 (out) "LED display segments that each may drive an external LED", 23 LED2 (out) "LED display segments that each may drive an external LED", 24 LED1 (out) "LED display segments that each may drive an external LED", 25 EVENT (in) "Input from bq29312A XALERT output", 26 MRST (in) "Master reset input that forces the device into reset when held high", 27 SR2 (in) "Connections for a small-value sense resistor to monitor the battery charge- and discharge-current flow", 28 SR1 (in) "Connections for a small-value sense resistor to monitor the battery charge- and discharge-current flow", 29 VSSA (power) "Negative supply for analog circuitry", 30 VSSA (power) "Negative supply for analog circuitry", 31 VDDA (power) "Positive supply for analog circuitry", 32 FILT (in) "Analog input connected to the external PLL filter", 33 XCK2/ROSC "32.768-kHz crystal oscillator input pin or connected to a 100-kohm, 50 ppm or better resistor if the internal oscillator is used", 34 XCK1/VSSA "32.768-kHz crystal oscillator input pin or connected to VSSA if the internal oscillator is used", 35 CLKOUT (out) "32.768-kHz output to the bq29312A", 36 NC "No connection", 37 NC "No connection", 38 VSSD (power) "Negative supply for digital circuitry"

## BQ2084DBTR-V150G4
designator U?
SBS v1.1 Compliant Gas Gauge with LED Delay, -20 to 85 degC, 38-pin TSSOP (DBT), Green (RoHS & no Sb/Br); PartNumber: BQ2084DBTR-V150G4; Manufacturer: Texas Instruments; Lead Acid: N; Li-Ion: Y; SubFamily: Battery Fuel Gauge; DatasheetVersion: SLUS758; PackageVersion: revI, Mar-2011; PackageReference: DBT38; PackageDescription: 38-Pin Plastic Small Outline 0.5 mm Pitch; Supplier 1: Digi-Key; Supplier Part Number 1: BQ2084DBTR-V150G4-ND; Supplier Part Number 3: 595-BQ2084DBTRV150G4; Eco-Plan: Green (RoHS & no Sb/Br); Li-Polymer: Y; NiCd: N; NiMH: N; Over Voltage Protection: N; Mounting Technology: Surface Mount; Code_JEDEC: MO-153; ComponentLink1Description: Datasheet; ComponentLink1URL: http://www.ti.com/general/docs/lit/getliterature.tsp?genericPartNumber=BQ2084-V150&fileType=pdf
footprint DBT38_N (TSSOP, 38-Leads, Body 9.7x4.4mm, Pitch 0.5mm, IPC Medium Density)
footprint DBT38_L (TSSOP, 38-Leads, Body 9.7x4.4mm, Pitch 0.5mm, IPC High Density)
footprint DBT38_M (TSSOP, 38-Leads, Body 9.7x4.4mm, Pitch 0.5mm, IPC Low Density)
pins: 1 VIN (power) "Single-cell voltage input from the bq29312A", 2 TS (in) "Thermistor voltage input connection to monitor temperature", 3 VSSA (power) "Negative supply for analog circuitry", 4 PU (out) "Output to pull up the PRES pin for detection", 5 ~{PRES} (in) "Active low input to sense system insertion", 6 SCLK (out) "Communication clock to the bq29312A", 7 NC "No connection", 8 VDDD (power) "Positive supply for digital circuitry and I/O pins", 9 RBI (power) "Register backup that provides backup potential to the bq2084-V150 data registers during periods of low operating voltage. RBI accepts a storage capacitor or a battery input.", 10 SDATA (io) "Data transfer to and from bq29312A", 11 VSSD (power) "Negative supply for digital circuitry", 12 ~{SAFE} (out) "Active low output for additional level of safety protection; e.g., fuse blow.", 13 NC "No connection", 14 NC "No connection", 15 SMBC (io) "SMBus clock open-drain bidirectional pin used to clock the data transfer to and from the bq2084-V150", 16 SMBD (io) "SMBus clock open-drain bidirectional pin used to transfer address and data to and from the bq2084-V150", 17 ~{DISP} (in) "Display control for the LED drivers LED1 through LED5", 18 ~{PFIN} (in) "Active low input to detect secondary protector output status", 19 VSSD (power) "Negative supply for digital circuitry", 20 LED5 (out) "LED display segments that each may drive an external LED", 21 LED4 (out) "LED display segments that each may drive an external LED", 22 LED3 (out) "LED display segments that each may drive an external LED", 23 LED2 (out) "LED display segments that each may drive an external LED", 24 LED1 (out) "LED display segments that each may drive an external LED", 25 EVENT (in) "Input from bq29312A XALERT output", 26 MRST (in) "Master reset input that forces the device into reset when held high", 27 SR2 (in) "Connections for a small-value sense resistor to monitor the battery charge- and discharge-current flow", 28 SR1 (in) "Connections for a small-value sense resistor to monitor the battery charge- and discharge-current flow", 29 VSSA (power) "Negative supply for analog circuitry", 30 VSSA (power) "Negative supply for analog circuitry", 31 VDDA (power) "Positive supply for analog circuitry", 32 FILT (in) "Analog input connected to the external PLL filter", 33 XCK2/ROSC "32.768-kHz crystal oscillator input pin or connected to a 100-kohm, 50 ppm or better resistor if the internal oscillator is used", 34 XCK1/VSSA "32.768-kHz crystal oscillator input pin or connected to VSSA if the internal oscillator is used", 35 CLKOUT (out) "32.768-kHz output to the bq29312A", 36 NC "No connection", 37 NC "No connection", 38 VSSD (power) "Negative supply for digital circuitry"

## BQ2085DBT-V1P3
designator U?
SBS-Compliant Gas Gauge IC for Use with the bq29311, -20 to 85 degC, 38-pin TSSOP (DBT), Green (RoHS & no Sb/Br); PartNumber: BQ2085DBT-V1P3; Manufacturer: Texas Instruments; Lead Acid: N; SubFamily: Battery Fuel Gauge; DatasheetVersion: SLUS598; PackageVersion: revI, Mar-2011; PackageReference: DBT38; PackageDescription: 38-Pin Plastic Small Outline 0.5 mm Pitch; Supplier 1: Digi-Key; Supplier Part Number 1: 296-17238-ND; Supplier Part Number 3: 595-BQ2085DBT-V1P3; Eco-Plan: Green (RoHS & no Sb/Br); Li-Ion: N; Li-Polymer: N; NiCd: N; NiMH: N; Over Voltage Protection: N; Mounting Technology: Surface Mount; Code_JEDEC: MO-153; ComponentLink1Description: Datasheet; ComponentLink1URL: http://www.ti.com/general/docs/lit/getliterature.tsp?genericPartNumber=BQ2085-V1P3&fileType=pdf
footprint DBT38_N (TSSOP, 38-Leads, Body 9.7x4.4mm, Pitch 0.5mm, IPC Medium Density)
footprint DBT38_L (TSSOP, 38-Leads, Body 9.7x4.4mm, Pitch 0.5mm, IPC High Density)
footprint DBT38_M (TSSOP, 38-Leads, Body 9.7x4.4mm, Pitch 0.5mm, IPC Low Density)
pins: 1 VIN (power) "Single-cell voltage input from the bq29311", 2 TS (in) "Thermistor voltage input connection to monitor temperature", 3 OC (in) "Analog input for auto ADC offset compensation; should be connected to VSSA", 4 N/C "No connection", 5 N/C "No connection", 6 SCLK (out) "Communication clock to the bq29311", 7 N/C "No connection", 8 VDDD (power) "Positive supply for digital circuitry and I/O pins", 9 RBI (power) "Register backup that provides backup potential to the bq2085-V1P3 data registers during periods of low operating voltage. RBI accepts a storage capacitor or a battery input.", 10 SDATA (io) "Data transfer to and from bq29311", 11 VSSD (power) "Negative supply for digital circuitry", 12 ~{SAFE} (out) "Output for additional level of safety protection; e.g., fuse blow.", 13 N/C "No connection", 14 N/C "No connection", 15 SMBC (io) "SMBus clock open-drain bidirectional pin used to clock the data transfer to and from the bq2085-V1P3", 16 SMBD (io) "SMBus data open-drain bidirectional pin used to transfer address and data to and from the bq2085-V1P3", 17 ~{DISP} (in) "Display control for the LED drivers LED1 through LED5", 18 EVENT (in) "Input from bq29311 XALERT output", 19 VSSD (power) "Negative supply for digital circuitry", 20 LED5 (out) "LED display segments that each may drive an external LED", 21 LED4 (out) "LED display segments that each may drive an external LED", 22 LED3 (out) "LED display segments that each may drive an external LED", 23 LED2 (out) "LED display segments that each may drive an external LED", 24 LED1 (out) "LED display segments that each may drive an external LED", 25 N/C "No connection", 26 MRST (in) "Master reset input that forces the device into reset when held high", 27 SR2 (in) "Connections for a small-value sense resistor to monitor the battery charge- and discharge-current flow", 28 SR1 (in) "Connections for a small-value sense resistor to monitor the battery charge- and discharge-current flow", 29 VSSA (power) "Negative supply for output circuitry", 30 VSSA (power) "Negative supply for analog circuitry", 31 VDDA (power) "Positive supply for analog circuitry", 32 FILT (in) "Analog input connected to the external PLL filter", 33 ROSC (in) "Internal time base bias input", 34 VSSA (power) "Negative supply for analog circuitry", 35 CLKOUT (out) "32.768-kHz output to the bq29311", 36 N/C "No connection", 37 N/C "No connection", 38 VSSD (power) "Negative supply for digital circuitry"